# Altium schematic symbol library РЕЗИСТОРЫ.SchLib: 5 symbols
Pins are listed as number, name and electrical type; pins without a type are passive.

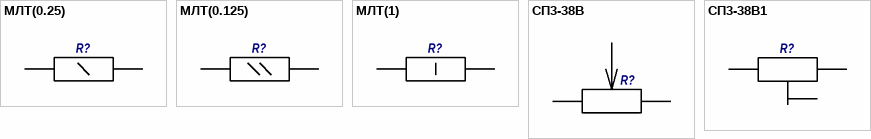
[diagram p0: symbols МЛТ(0.25) to СП3-38В1]

## МЛТ(0.25)
designator R?  (value not drawn)
Value: {Value}
footprint МЛТ(0.25)
pins: 1, 2

## МЛТ(0.125)
designator R?  (value not drawn)
Value: {Value}
footprint МЛТ(0.125)
pins: 1, 2

## МЛТ(1)
designator R?  (value not drawn)
Value: {Value}
footprint МЛТ(1)
pins: 1, 2

## СП3-38В
designator R?  (value not drawn)
Value: {Value}
footprint СП3-38В
pins: 1, 2, 3

## СП3-38В1
designator R?  (value not drawn)
Value: {Value}
footprint СП3-38В
pins: 1, 2, 3